# EAGLE library part JS202011SCQN (library MyLib)
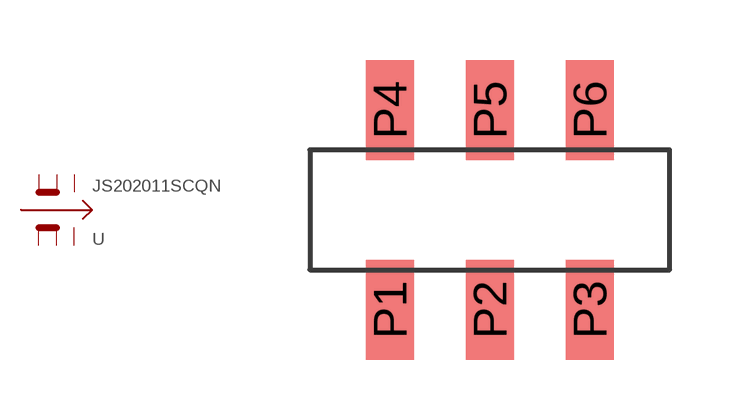
[diagram p6: symbol with the pads of JS202011SCQN; footprint JS202011SCQN]

Designator prefix -

## JS202011SCQN  [JS202011SCQN]
P1  P1
P2  P2
P3  P3
P4  P4
P5  P5
P6  P6

## Footprint JS202011SCQN (pad centres in mm)
smd 1.2 x 2.5: P1 -2.5,-2.5; P2 0,-2.5; P3 2.5,-2.5; P4 -2.5,2.5; P5 0,2.5; P6 2.5,2.5